# Altium footprint library IND_AMDLA1004S-470MT.PcbLib: 1 footprints
Each footprint in its own frame and in the unit in brackets; x right, y up, seen from the top. Pads: shape width x height; smd on the part's side, far side on the other; paste and mask are expansions set on the pad; w line width, h text height; cw(c..) or ccw(c..) is an arc to the next point about the centre after c.
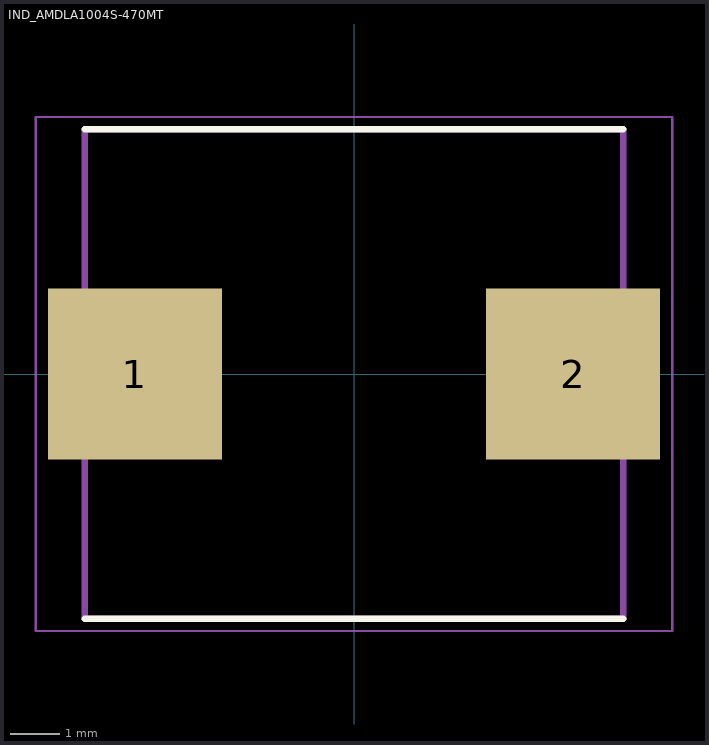
[diagram p0: the footprint, top view; thin cyan lines are the x and y axes]

## IND_AMDLA1004S-470MT [mm]
height 4
pads (2):
  rect 3.55x3.5 smd: 1(-4.475,0) 2(4.475,0)
Top Overlay:
  lines w0.127: -5.5,-5 5.5,-5 ; -5.5,5 5.5,5
Mechanical 13:
  lines w0.127: -5.5,-5 -5.5,5 5.5,5 5.5,-5 -5.5,-5
Mechanical 15:
  lines w0.05: -6.5,-5.25 -6.5,5.25 6.5,5.25 6.5,-5.25 -6.5,-5.25
3D body "step_temp.STEP": height 3.8, standoff -0.07, extent -5.57,-5 5.57,5